# EAGLE library part 13P (library con-dg55)
DEGSON DG55 CONNECTOR
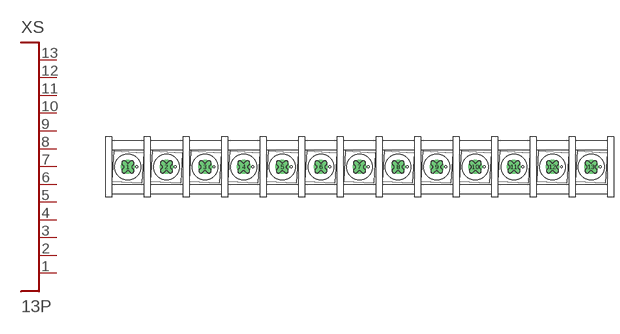
[diagram p7: symbol with the pads of DG55CB-13P-1; footprint DG55CB-13P-1]

Designator prefix XS

## 13P  [DG55CB-13P-1]
1  P$1
2  P$2
3  P$3
4  P$4
5  P$5
6  P$6
7  P$7
8  P$8
9  P$9
10  P$10
11  P$11
12  P$12
13  P$13

## Footprint DG55CB-13P-1 (pad centres in mm)
DG55
drill 1.8 pad 3.6: 1 -60,0; 2 -50,0; 3 -40,0; 4 -30,0; 5 -20,0; 6 -10,0; 7 0,0; 8 10,0; 9 20,0; 10 30,0; 11 40,0; 12 50,0; 13 60,0